# Altium integrated library LED_0402.IntLib: 1 symbol
Pins are listed as number, name and electrical type; pins without a type are passive.

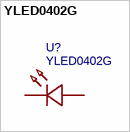
[diagram p0: symbol YLED0402G]

## YLED0402G
designator U?
Manufacturer: YONGYUTAI(永裕泰); Contributor: lcsc; Supplier: LCSC; Supplier Part: C20608784; Manufacturer Part: YLED0402G; JLCPCB Part Class: Extended Part; spicePre: U; spiceSymbolName: YLED0402G
footprint LED0402-R-RD
pins: 1 A, 2 K